# Altium schematic symbol library OSC.SchLib: 2 symbols
Pins are listed as number, name and electrical type; pins without a type are passive.

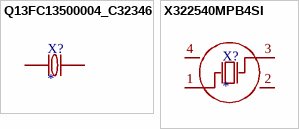
[diagram p0: symbols Q13FC13500004_C32346 to X322540MPB4SI]

## Q13FC13500004_C32346
designator X?
footprint FC-135R_L3.2-W1.5
pins: 1, 2

## X322540MPB4SI
designator X?
footprint OSC-SMD_4P-L3.2-W2.5-BL_SIT8008BI
pins: 1 OSC1, 2 GND, 3 OSC2, 4 GND